# Altium schematic symbol library 2C198.Schlib: 1 symbol
Pins are listed as number, name and electrical type; pins without a type are passive.

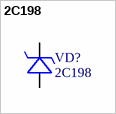
[diagram p0: symbol 2C198]

## 2C198
designator VD?
Diode; Назначение: Стабилитрон; Наименование: 2С198
footprint DO-41
pins: 1 A, 2 K